# Altium schematic symbol library 11_Auxiliary.SchLib: 3 symbols
Pins are listed as number, name and electrical type; pins without a type are passive.

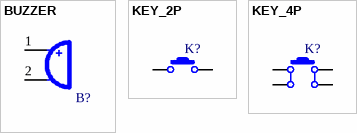
[diagram p0: symbols BUZZER to KEY_4P]

## BUZZER
designator B?  (value not drawn)
蜂鸣器
pins: 1 +, 2 -

## KEY_2P
designator K?
2脚按键/开关
pins: 1, 2

## KEY_4P
designator K?
4脚按键/开关-12/34
pins: 1, 2, 3, 4